# EAGLE library part 557566-1 (library con-amp)
AMP connector
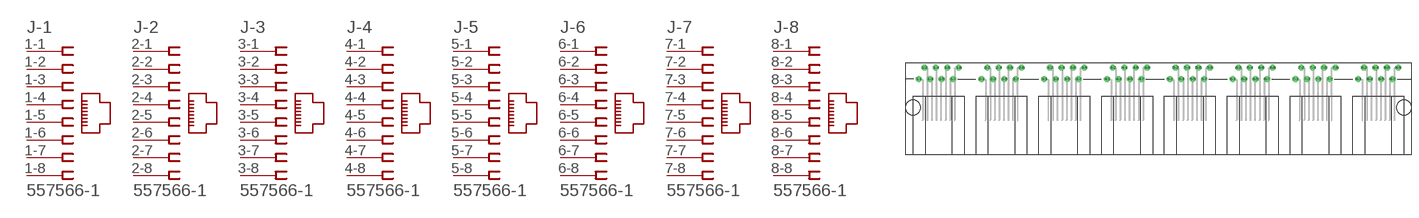
[diagram p65: symbol with the pads of 557566-1; footprint 557566-1]

Designator prefix J; gates -1=JACK8 -2=JACK8 -3=JACK8 -4=JACK8 -5=JACK8 -6=JACK8 -7=JACK8 -8=JACK8

## 557566-1  [557566-1]
1-1  -1:1  pas
1-2  -1:2  pas
1-3  -1:3  pas
1-4  -1:4  pas
1-5  -1:5  pas
1-6  -1:6  pas
1-7  -1:7  pas
1-8  -1:8  pas
2-1  -2:1  pas
2-2  -2:2  pas
2-3  -2:3  pas
2-4  -2:4  pas
2-5  -2:5  pas
2-6  -2:6  pas
2-7  -2:7  pas
2-8  -2:8  pas
3-1  -3:1  pas
3-2  -3:2  pas
3-3  -3:3  pas
3-4  -3:4  pas
3-5  -3:5  pas
3-6  -3:6  pas
3-7  -3:7  pas
3-8  -3:8  pas
4-1  -4:1  pas
4-2  -4:2  pas
4-3  -4:3  pas
4-4  -4:4  pas
4-5  -4:5  pas
4-6  -4:6  pas
4-7  -4:7  pas
4-8  -4:8  pas
5-1  -5:1  pas
5-2  -5:2  pas
5-3  -5:3  pas
5-4  -5:4  pas
5-5  -5:5  pas
5-6  -5:6  pas
5-7  -5:7  pas
5-8  -5:8  pas
6-1  -6:1  pas
6-2  -6:2  pas
6-3  -6:3  pas
6-4  -6:4  pas
6-5  -6:5  pas
6-6  -6:6  pas
6-7  -6:7  pas
6-8  -6:8  pas
7-1  -7:1  pas
7-2  -7:2  pas
7-3  -7:3  pas
7-4  -7:4  pas
7-5  -7:5  pas
7-6  -7:6  pas
7-7  -7:7  pas
7-8  -7:8  pas
8-1  -8:1  pas
8-2  -8:2  pas
8-3  -8:3  pas
8-4  -8:4  pas
8-5  -8:5  pas
8-6  -8:6  pas
8-7  -8:7  pas
8-8  -8:8  pas

## Footprint 557566-1 (pad centres in mm)
Modular Jack
drill 0.889 round: 1-1 -53.34,6.35; 1-2 -52.07,8.89; 1-3 -50.8,6.35; 1-4 -49.53,8.89; 1-5 -48.26,6.35; 1-6 -46.99,8.89; 1-7 -45.72,6.35; 1-8 -44.45,8.89; 2-1 -39.37,6.35; 2-2 -38.1,8.89; 2-3 -36.83,6.35; 2-4 -35.56,8.89; 2-5 -34.29,6.35; 2-6 -33.02,8.89; 2-7 -31.75,6.35; 2-8 -30.48,8.89; 3-1 -25.4,6.35; 3-2 -24.13,8.89; 3-3 -22.86,6.35; 3-4 -21.59,8.89; 3-5 -20.32,6.35; 3-6 -19.05,8.89; 3-7 -17.78,6.35; 3-8 -16.51,8.89; 4-1 -11.43,6.35; 4-2 -10.16,8.89; 4-3 -8.89,6.35; 4-4 -7.62,8.89; 4-5 -6.35,6.35; 4-6 -5.08,8.89; 4-7 -3.81,6.35; 4-8 -2.54,8.89; 5-1 2.54,6.35; 5-2 3.81,8.89; 5-3 5.08,6.35; 5-4 6.35,8.89; 5-5 7.62,6.35; 5-6 8.89,8.89; 5-7 10.16,6.35; 5-8 11.43,8.89; 6-1 16.51,6.35; 6-2 17.78,8.89; 6-3 19.05,6.35; 6-4 20.32,8.89; 6-5 21.59,6.35; 6-6 22.86,8.89; 6-7 24.13,6.35; 6-8 25.4,8.89; 7-1 30.48,6.35; 7-2 31.75,8.89; 7-3 33.02,6.35; 7-4 34.29,8.89; 7-5 35.56,6.35; 7-6 36.83,8.89; 7-7 38.1,6.35; 7-8 39.37,8.89; 8-1 44.45,6.35; 8-2 45.72,8.89; 8-3 46.99,6.35; 8-4 48.26,8.89; 8-5 49.53,6.35; 8-6 50.8,8.89; 8-7 52.07,6.35; 8-8 53.34,8.89
hole 3.251 at -54.61,0
hole 3.251 at 54.61,0